# Altium footprint library Altium 普通库.PcbLib: 12 footprints
Each footprint in its own frame and in the unit in brackets; x right, y up, seen from the top. Pads: shape width x height; smd on the part's side, far side on the other; paste and mask are expansions set on the pad; w line width, h text height; cw(c..) or ccw(c..) is an arc to the next point about the centre after c.
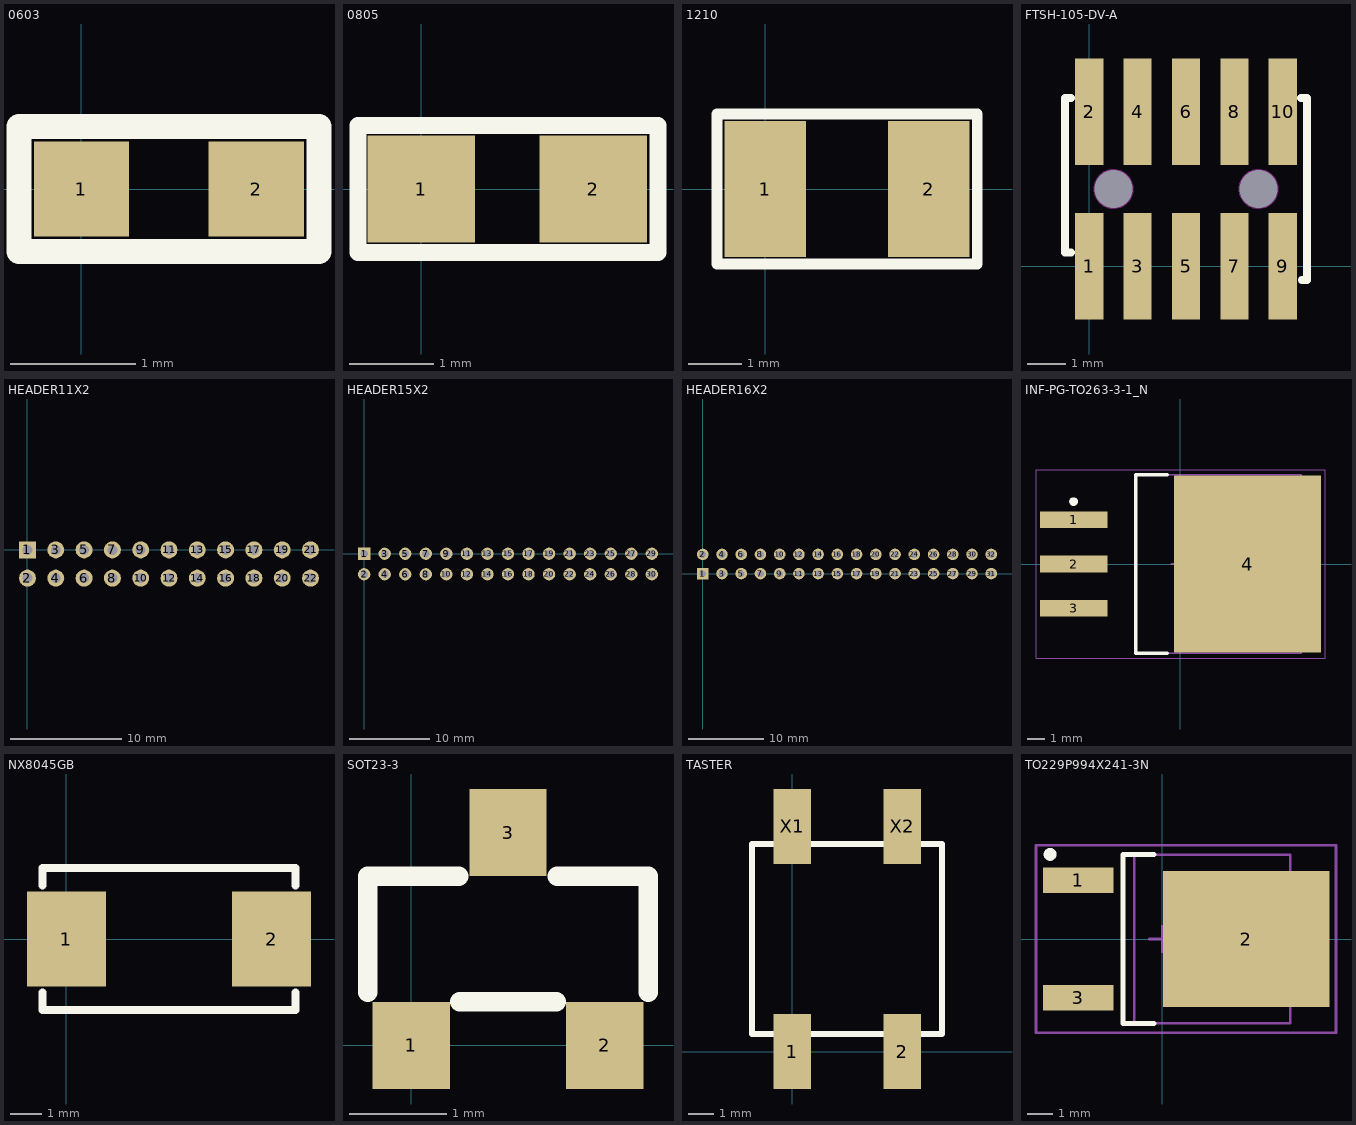
[diagram p0: the footprints below, top view; thin cyan lines are the x and y axes]

## 0603 [mil]
height 214.96
pads (2):
  rect 30x30 smd: 1(0,0) 2(55,0)
Top Overlay:
  lines w8: -19.68,-19.68 74.8,-19.68 74.8,19.68 -19.68,19.68 -19.68,-19.68

## 0805 [mil]
height 214.96
pads (2):
  rect 50x50 smd: 1(0,0) 2(80,0)
Top Overlay:
  lines w8: -29.53,-29.53 110.24,-29.53 110.24,29.53 -29.53,29.53 -29.53,-29.53

## 1210 [mil]
pads (2):
  rect 60x100 smd: 1(0,0) 2(120,0)
Top Overlay:
  lines w8: -35.43,-55.12 -35.43,55.12 155.51,55.12 155.51,-55.12 -35.43,-55.12

## FTSH-105-DV-A [mm]
height 5.46
pads (12):
  rect 0.74x2.8 smd: 1(0,0) 2(0,4.06) 3(1.27,0) 4(1.27,4.06) 5(2.54,0) 6(2.54,4.06) 7(3.81,0) 8(3.81,4.06) 9(5.08,0) 10(5.08,4.06)
  round 0 hole 1 unplated: X3(0.635,2.03) X4(4.445,2.03)
Top Overlay:
  lines w0.203: -0.48,0.36 -0.64,0.36 -0.64,4.42 -0.48,4.42 ; 5.56,4.42 5.72,4.42 5.72,-0.36 5.58,-0.36
Keep-Out Layer:
  circle w0.152: c4.445,2.03 r0.45
  circle w0.152: c0.635,2.03 r0.45

## HEADER11X2 [mil]
pads (22):
  rect 60x60 hole 35: 1(0,0)
  round 60 hole 35: 2(0,-100) 3(100,0) 4(100,-100) 5(200,0) 6(200,-100) 7(300,0) 8(300,-100) 9(400,0) 10(400,-100) 11(500,0) 12(500,-100) 13(600,0) 14(600,-100) 15(700,0) 16(700,-100) 17(800,0) 18(800,-100) 19(900,0) 20(900,-100) 21(1000,0) 22(1000,-100)

## HEADER15X2 [mil]
pads (30):
  rect 60x60 hole 35: 1(0,0)
  round 60 hole 35: 2(0,-100) 3(100,0) 4(100,-100) 5(200,0) 6(200,-100) 7(300,0) 8(300,-100) 9(400,0) 10(400,-100) 11(500,0) 12(500,-100) 13(600,0) 14(600,-100) 15(700,0) 16(700,-100) 17(800,0) 18(800,-100) 19(900,0) 20(900,-100) 21(1000,0) 22(1000,-100) 23(1100,0) 24(1100,-100) 25(1200,0) 26(1200,-100) 27(1300,0) 28(1300,-100) 29(1400,0) 30(1400,-100)

## HEADER16X2 [mil]
pads (32):
  rect 60x60 hole 35: 1(0,0)
  round 60 hole 35: 2(0,100) 3(100,0) 4(100,100) 5(200,0) 6(200,100) 7(300,0) 8(300,100) 9(400,0) 10(400,100) 11(500,0) 12(500,100) 13(600,0) 14(600,100) 15(700,0) 16(700,100) 17(800,0) 18(800,100) 19(900,0) 20(900,100) 21(1000,0) 22(1000,100) 23(1100,0) 24(1100,100) 25(1200,0) 26(1200,100) 27(1300,0) 28(1300,100) 29(1400,0) 30(1400,100) 31(1500,0) 32(1500,100)

## INF-PG-TO263-3-1_N [mm] "DPAK, 3-Leads, Body 10x9.25mm, Pitch 2.54mm, IPC Medium Density"
height 4.4
pads (4):
  rect 3.85x0.95 smd: 1(-6.1,2.54) 2(-6.1,0) 3(-6.1,-2.54)
  rect 8.4x10.1 smd: 4(3.85,0)
Top Overlay:
  circle w0.25: c-6.1,3.565 r0.125
  lines w0.2: -0.75,-5.1 -2.55,-5.1 -2.55,5.1 -0.75,5.1
Mechanical 13:
  lines w0.1: -2.55,-5.1 -2.55,5.1 6.9,5.1 6.9,-5.1 -2.55,-5.1
Mechanical 15:
  lines w0.05: -8.25,-5.375 -8.25,5.375 8.275,5.375 8.275,-5.375 -8.25,-5.375
  lines w0.1: -0.5,0 0.5,0 ; 0,-0.5 0,0.5
3D body: height 4.4, standoff 0.1, extent -2.55,-5.1 6.9,5.1

## NX8045GB [mm] "Crystal Unit 8.0x4.5x1.8 mm"
height 1.8
pads (2):
  rect 2.5x3 smd: 1(0,0) 2(6.5,0)
Top Overlay:
  lines w0.254: -0.75,-1.7 -0.75,-2.25 7.25,-2.25 7.25,-1.7 ; -0.75,1.7 -0.75,2.25 7.25,2.25 7.25,1.7

## SOT23-3 [mm]
height 5.46
pads (3):
  rect 0.8x0.9 smd: 1(0,0) 2(2,0) 3(1,2.2)
Top Overlay:
  lines w0.203: -0.45,0.55 -0.45,1.75 0.49,1.75 ; 0.5,0.45 1.5,0.45 ; 1.51,1.75 2.45,1.75 2.45,0.55

## TASTER [mm]
height 5.46
pads (4):
  rect 1.5x3 smd: 1(0,0) 2(4.4,0) X1(0,9) X2(4.4,9)
Top Overlay:
  lines w0.254: -1.6,0.7 -1.6,8.3 6,8.3 6,0.7 -1.6,0.7

## TO229P994X241-3N [mm] "TO,2.29mm pitch;2 pin,9.94mm L X 6.095mm W X 2.41mm H body"
height 2.41
pads (3):
  rect 2.75x1 smd: 1(-3.275,2.29) 3(-3.275,-2.29)
  rect 6.5x5.3 smd: 2(3.275,0)
Top Overlay:
  circle w0.25: c-4.375,3.3 r0.125
  lines w0.2: -0.325,-3.3 -1.525,-3.3 -1.525,3.3 -0.325,3.3
Mechanical 3:
  text ".DESIGNATOR" at 0,0 h0.7
Mechanical 13:
  lines w0.1: 4.994,-3.283 4.994,3.283 -1.101,3.283 -1.101,-3.283 4.995,-3.282
Mechanical 15:
  lines w0.1: -0.5,0 0.5,0 ; 0,-0.5 0,0.5 ; -4.925,-3.65 6.775,-3.65 6.775,3.65 -4.925,3.65 -4.925,-3.65
3D body: height 2.36, standoff 0, extent -4.065,-3.25 5.915,3.25